# EAGLE library part 2616-3109/020-000 (library con-wago_2616)
Stand: 01.01.2017. Die jeweils aktuellen Daten zu diesem Artikel finden Sie in unserem Produktkatalog, den Sie unter www.wago.com einsehen können. As of: 01/01/2017. Please find the newest data for this article in our product catalogue, which can be viewed under www.wago.com.
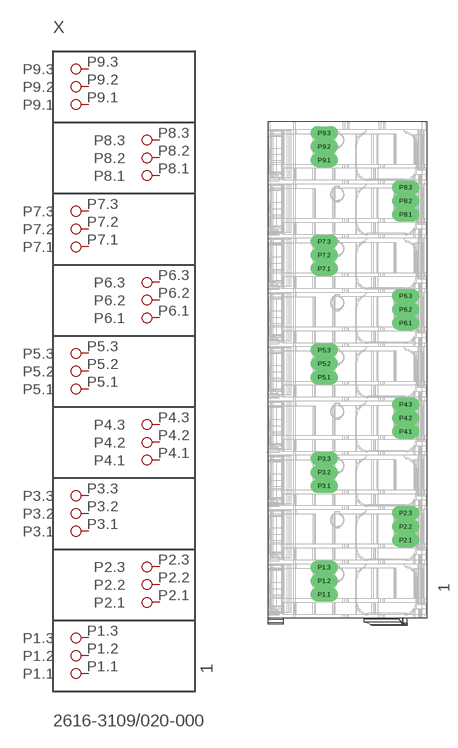
[diagram p15: symbol with the pads of P-2616-3109/020-000; footprint P-2616-3109/020-000]

Designator prefix X

## 2616-3109/020-000  [P-2616-3109/020-000]
P1.1  P1.1
P1.2  P1.2
P1.3  P1.3
P2.1  P2.1
P2.2  P2.2
P2.3  P2.3
P3.1  P3.1
P3.2  P3.2
P3.3  P3.3
P4.1  P4.1
P4.2  P4.2
P4.3  P4.3
P5.1  P5.1
P5.2  P5.2
P5.3  P5.3
P6.1  P6.1
P6.2  P6.2
P6.3  P6.3
P7.1  P7.1
P7.2  P7.2
P7.3  P7.3
P8.1  P8.1
P8.2  P8.2
P8.3  P8.3
P9.1  P9.1
P9.2  P9.2
P9.3  P9.3

## Footprint P-2616-3109/020-000 (pad centres in mm)
drill 1.7 long: P1.1 -4.235,-40.7; P1.2 -4.235,-38.2; P1.3 -4.235,-35.7; P2.1 10.765,-30.7; P2.2 10.765,-28.2; P2.3 10.765,-25.7; P3.1 -4.235,-20.7; P3.2 -4.235,-18.2; P3.3 -4.235,-15.7; P4.1 10.765,-10.7; P4.2 10.765,-8.2; P4.3 10.765,-5.7; P5.1 -4.235,-0.7; P5.2 -4.235,1.8; P5.3 -4.235,4.3; P6.1 10.765,9.3; P6.2 10.765,11.8; P6.3 10.765,14.3; P7.1 -4.235,19.3; P7.2 -4.235,21.8; P7.3 -4.235,24.3; P8.1 10.765,29.3; P8.2 10.765,31.8; P8.3 10.765,34.3; P9.1 -4.235,39.3; P9.2 -4.235,41.8; P9.3 -4.235,44.3